# Altium integrated library Infineon_Power_Motor_Driver.IntLib: 100 symbols (part 3 of 7)
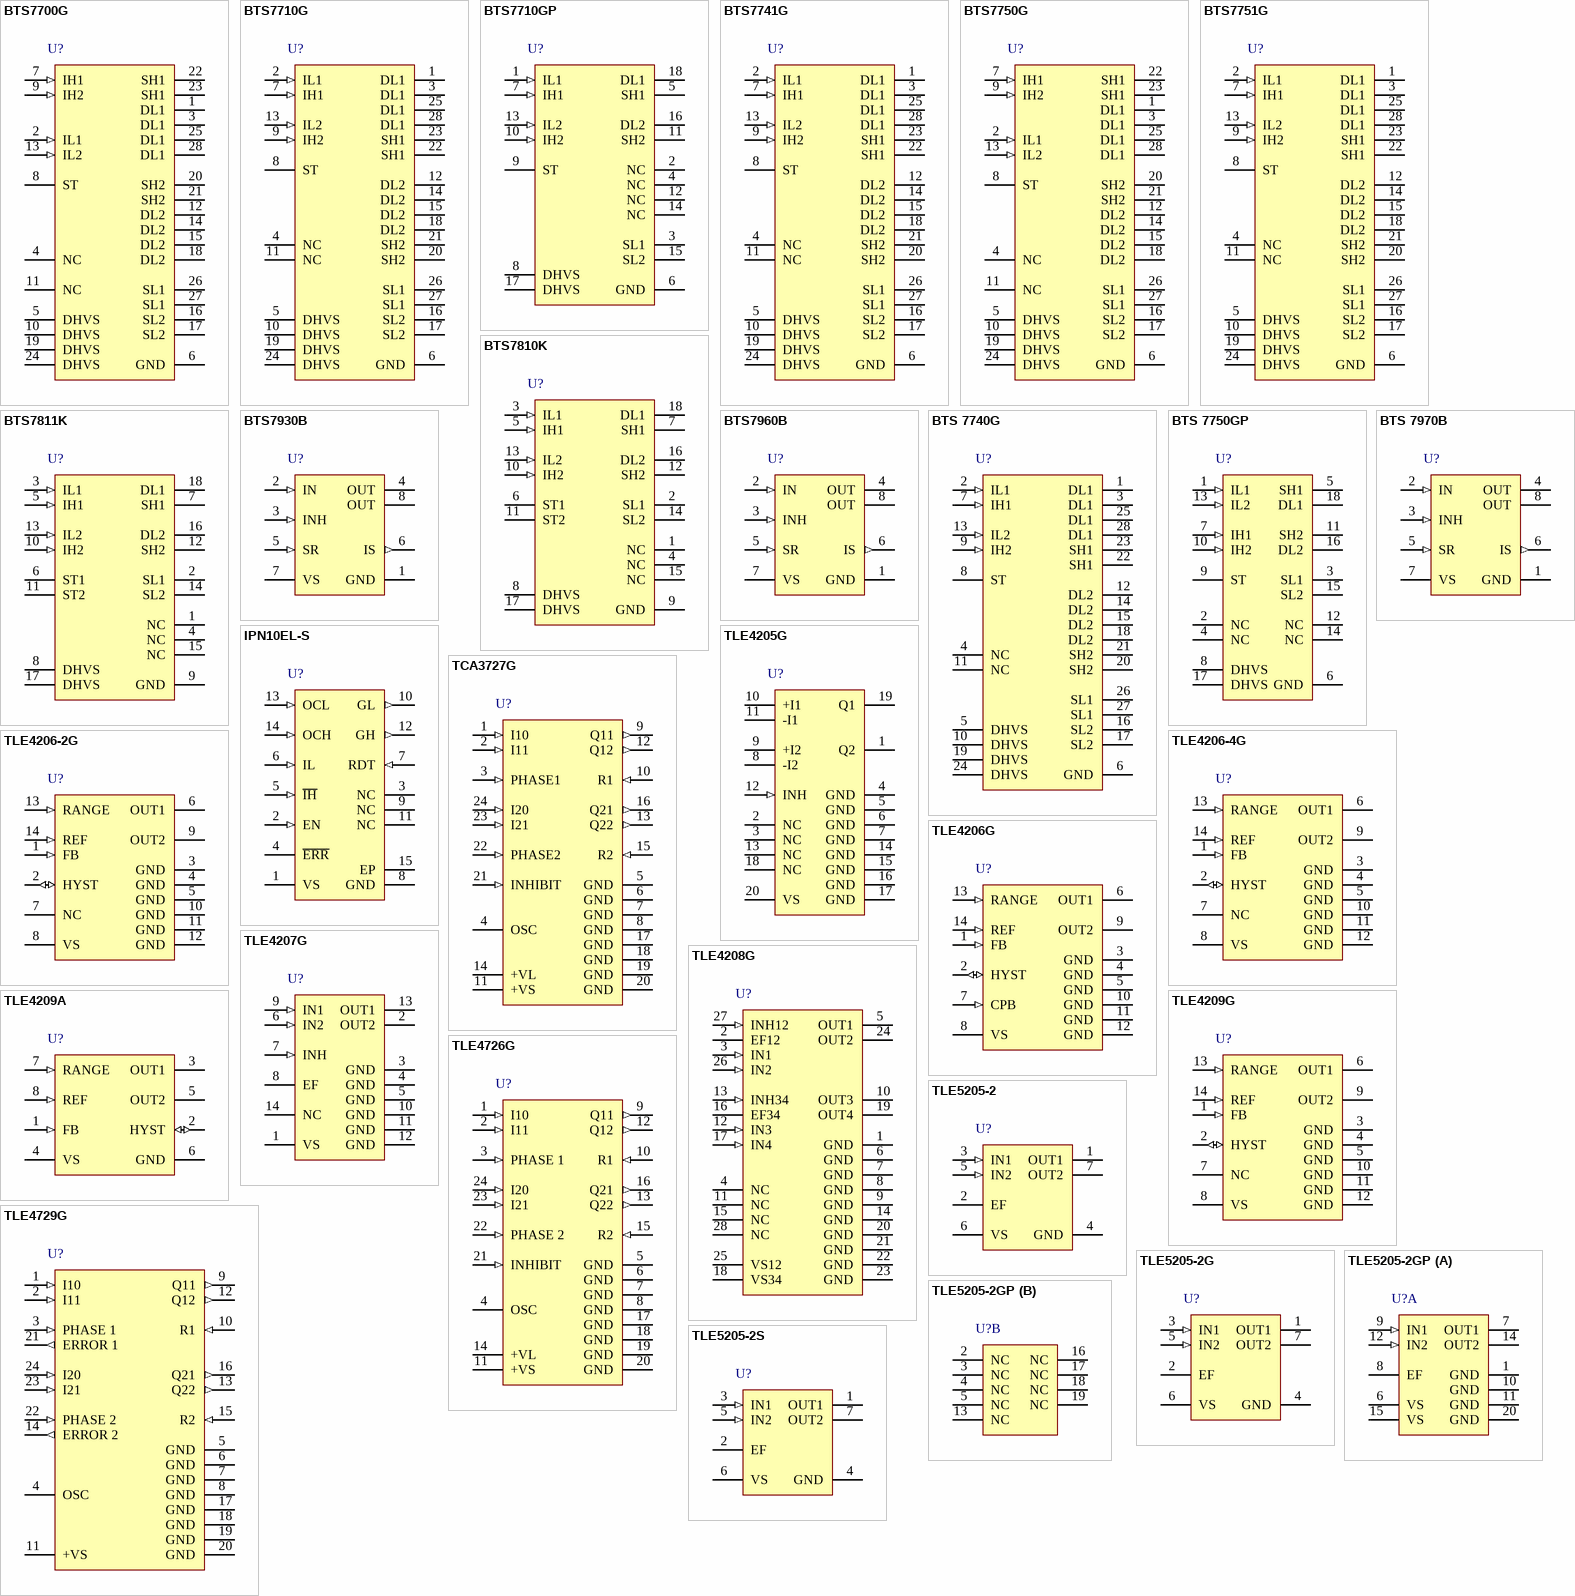
[diagram p6: symbols BTS7700G to TLE5205-2S]

## BTS7810K
designator U?
TrilithIC, 5 to 42 V, -40 to 150 degC, P-TO263-15-1; Manufacturer: Infineon; PartNumber: BTS7810K; Green: FALSE; ID(lim): 42 A; ID(lim) (min): 25 A; Iq (typ): 4 uA; Operating Range: 5 to 42 V; Protect: OT, SC; RDS(on) (typ): 40 mOhm; VS (max): 42 V; PackageVersion: Mar-03; PackageReference: P-TO263-15-1; PackageDescription: 15-Pin Plastic Transistor Single Outline Package, 21.6 x 9.25 mm Body, 1.4 mm Pitch; Supplier 1: Mouser; Supplier Part Number 1: 726-BTS7810K; Supplier 2: Digi-Key; Supplier Part Number 2: BTS7810K-ND; Group: TrilithIC; Halogen-free: FALSE; Inhibit: FALSE; Mounting Technology: Surface Mount; ComponentLink1Description: Manufacturer URL; ComponentLink1URL: http://www.infineon.com/; ComponentLink2Description: Datasheet; ComponentLink2URL: http://www.infineon.com/dgdl/BTS7810K_11-03-2003.pdf?folderId=db3a304412b407950112b439834a6e16&fileId=db3a304412b407950112b43983d56e17&location=en.Products.Automotive_ICs.Motor_Drivers__Automotive_.Integrated_High_Current_Motor_Drivers__NovalithIC____Trilith_IC_.DATASHEET.BTS7810K_11-03-2003.pdf; ComponentLink3Description: Package Specification; ComponentLink3URL: http://www.infineon.com/dgdl/BTS7810K_11-03-2003.pdf?folderId=db3a304412b407950112b439834a6e16&fileId=db3a304412b407950112b43983d56e17&sId=db3a30433db1c06a013db463a2ae1455
footprint INF-P-TO263-15-1_V (TO263, 15-Leads, Body 21.6x9.25mm, Pitch 1.4mm)
pins: 1 NC "Not connected", 2 SL1 (power) "Source of low-side switch 1", 3 IL1 (in) "Analog input of low-side switch 1", 4 NC "Not connected", 5 IH1 (in) "Digital input of high-side switch 1", 6 ST1 (oc) "Status of high-side switch 1; open Drain output", 7 SH1 (power) "Source of high-side switch 1", 8 DHVS (power) "Drain of high-side switches and power supply voltage", 9 GND (power) "Ground of high-side switches", 10 IH2 (in) "Digital input of high-side switch 2", 11 ST2 (oc) "Status of high-side switch 2; open Drain output", 12 SH2 (power) "Source of high-side switch 2", 13 IL2 (in) "Analog input of low-side switch 2", 14 SL2 (power) "Source of low-side switch 2", 15 NC "Not connected", 16 DL2 (power) "Drain of low-side switch 2 Heat-Slug 3", 17 DHVS (power) "Drain of high-side switches and power supply voltage Heat-Slug 2", 18 DL1 (power) "Drain of low-side switch 1 Heat-Slug 1"

## BTS7811K
designator U?
TrilithIC, 5 to 42 V, -40 to 150 degC, P-TO263-15-1; Manufacturer: Infineon; PartNumber: BTS7811K; Green: FALSE; ID(lim): 42 A; ID(lim) (min): 27 A; Iq (typ): 4 uA; Operating Range: 5 to 42 V; Protect: OT, SC; RDS(on) (typ): 40 mOhm; VS (max): 42 V; DatasheetVersion: Rev. 2.0; PackageVersion: Mar-03; PackageReference: P-TO263-15-1; PackageDescription: 15-Pin Plastic Transistor Single Outline Package, 21.6 x 9.25 mm Body, 1.4 mm Pitch; Supplier 1: Mouser; Supplier Part Number 1: 726-BTS7811K; Supplier 2: Digi-Key; Supplier Part Number 2: BTS7811K-ND; Group: TrilithIC; Halogen-free: TRUE; Inhibit: FALSE; Mounting Technology: Surface Mount; ComponentLink1Description: Manufacturer URL; ComponentLink1URL: http://www.infineon.com/; ComponentLink2Description: Datasheet; ComponentLink2URL: http://www.infineon.com/dgdl/BTS7811K_DS_20.pdf?folderId=db3a304319c6f18c011a33d4469709f3&fileId=db3a304319c6f18c011a33dc7ee809fe&location=en.Products.Automotive_ICs.Motor_Drivers__Automotive_.Integrated_High_Current_Motor_Drivers__NovalithIC____Trilith_IC_.DATASHEET.BTS7811K_DS_20.pdf; ComponentLink3Description: Package Specification; ComponentLink3URL: http://www.infineon.com/dgdl/BTS7810K_11-03-2003.pdf?folderId=db3a304412b407950112b439834a6e16&fileId=db3a304412b407950112b43983d56e17&sId=db3a30433db1c06a013db463a2ae1455
footprint INF-P-TO263-15-1_V (TO263, 15-Leads, Body 21.6x9.25mm, Pitch 1.4mm)
pins: 1 NC "Not connected", 2 SL1 (power) "Source of low-side switch 1", 3 IL1 (in) "Analog input of low-side switch 1", 4 NC "Not connected", 5 IH1 (in) "Digital input of high-side switch 1", 6 ST1 (oc) "Status of high-side switch 1; open Drain output", 7 SH1 (power) "Source of high-side switch 1", 8 DHVS (power) "Drain of high-side switches and power supply voltage", 9 GND (power) "Ground of high-side switches", 10 IH2 (in) "Digital input of high-side switch 2", 11 ST2 (oc) "Status of high-side switch 2; open Drain output", 12 SH2 (power) "Source of high-side switch 2", 13 IL2 (in) "Analog input of low-side switch 2", 14 SL2 (power) "Source of low-side switch 2", 15 NC "Not connected", 16 DL2 (power) "Drain of low-side switch 2 Heat-Slug 3", 17 DHVS (power) "Drain of high-side switches and power supply voltage Heat-Slug 2", 18 DL1 (power) "Drain of low-side switch 1 Heat-Slug 1"

## BTS7930B
designator U?
High Current PN Half Bridge NovalithIC, -40 to 150 degC, P-TO-263-7-6; Manufacturer: Infineon; PartNumber: BTS7930B; Green: FALSE; Iq (typ): 7 uA; DatasheetVersion: Rev. 2.0; PackageVersion: May-06; PackageReference: P-TO-263-7-6; PackageDescription: 7-Pin Plastic Transistor Single Outline Package, 9.9 x 9.2 mm Body, 1.27 mm Pitch; Supplier 1: Mouser; Supplier Part Number 1: N/A; Supplier 2: Digi-Key; Supplier Part Number 2: BTS7930BINTR-ND; Supplier 3: Digi-Key; Supplier Part Number 3: BTS7930BINCT-ND; Supplier 4: Digi-Key; Supplier Part Number 4: BTS7930BINDKR-ND; Halogen-free: FALSE; Mounting Technology: Surface Mount; ComponentLink1Description: Manufacturer URL; ComponentLink1URL: http://www.infineon.com/; ComponentLink2Description: Datasheet; ComponentLink2URL: http://www.infineon.com/dgdl/BTS7930B_Datasheet.pdf?folderId=db3a304412b407950112b408e8c90004&fileId=db3a304412b407950112b4394d6b6d65&location=en.Products.Automotive_ICs.Motor_Drivers__Automotive_.Integrated_High_Current_Motor_Drivers__NovalithIC____Trilith_IC_.DATASHEET.BTS7930B_Datasheet.pdf; ComponentLink3Description: Package Specification; ComponentLink3URL: http://www.infineon.com/dgdl/BTS7970B_Datasheet.pdf?folderId=db3a304412b407950112b408e8c90004&fileId=db3a304412b407950112b43949b36d61&sId=db3a30433d68e984013d7db637dc5e6a
footprint INF-P-TO-263-7-6_N (DPAK, 7-Leads, Body 9.9x9.2mm, Pitch 1.27mm, IPC Medium Density)
footprint INF-P-TO-263-7-6_L (DPAK, 7-Leads, Body 9.9x9.2mm, Pitch 1.27mm, IPC High Density)
footprint INF-P-TO-263-7-6_M (DPAK, 7-Leads, Body 9.9x9.2mm, Pitch 1.27mm, IPC Low Density)
pins: 1 GND (power) "Ground", 2 IN (in) "Input Defines whether high- or lowside switch is activated", 3 INH (in) "Inhibit When set to low device goes in sleep mode", 4 OUT (power) "Power output of the bridge", 5 SR (in) "Slew Rate The slew rate of the power switches can be adjusted by connecting a resistor between SR and GND", 6 IS (out) "Current Sense and Diagnosis", 7 VS (power) "Supply", 8 OUT (power) "Power output of the bridge"

## BTS7960B
designator U?
High Current PN Half Bridge NovalithIC, -40 to 150 degC, P-TO-263-7-6; Manufacturer: Infineon; PartNumber: BTS7960B; Green: FALSE; Iq (typ): 7 uA; DatasheetVersion: Rev. 1.1; PackageVersion: May-06; PackageReference: P-TO-263-7-6; PackageDescription: 7-Pin Plastic Transistor Single Outline Package, 9.9 x 9.2 mm Body, 1.27 mm Pitch; Supplier 1: Mouser; Supplier Part Number 1: N/A; Supplier 2: Digi-Key; Supplier Part Number 2: BTS7960BINTR-ND; Supplier 3: Digi-Key; Supplier Part Number 3: BTS7960BINCT-ND; Supplier 4: Digi-Key; Supplier Part Number 4: BTS7960BINDKR-ND; Halogen-free: FALSE; Mounting Technology: Surface Mount; ComponentLink1Description: Manufacturer URL; ComponentLink1URL: http://www.infineon.com/; ComponentLink2Description: Datasheet; ComponentLink2URL: http://www.infineon.com/dgdl/BTS7960_Datasheet.pdf?folderId=db3a304412b407950112b408e8c90004&fileId=db3a304412b407950112b43945006d5d&location=en.Products.Automotive_ICs.Motor_Drivers__Automotive_.Integrated_High_Current_Motor_Drivers__NovalithIC____Trilith_IC_.DATASHEET.BTS7960_Datasheet.pdf; ComponentLink3Description: Package Specification; ComponentLink3URL: http://www.infineon.com/dgdl/BTS7970B_Datasheet.pdf?folderId=db3a304412b407950112b408e8c90004&fileId=db3a304412b407950112b43949b36d61&sId=db3a30433d68e984013d7db637dc5e6a
footprint INF-P-TO-263-7-6_N (DPAK, 7-Leads, Body 9.9x9.2mm, Pitch 1.27mm, IPC Medium Density)
footprint INF-P-TO-263-7-6_L (DPAK, 7-Leads, Body 9.9x9.2mm, Pitch 1.27mm, IPC High Density)
footprint INF-P-TO-263-7-6_M (DPAK, 7-Leads, Body 9.9x9.2mm, Pitch 1.27mm, IPC Low Density)
pins: 1 GND (power) "Ground", 2 IN (in) "Input Defines whether high- or lowside switch is activated", 3 INH (in) "Inhibit When set to low device goes in sleep mode", 4 OUT (power) "Power output of the bridge", 5 SR (in) "Slew Rate The slew rate of the power switches can be adjusted by connecting a resistor between SR and GND", 6 IS (out) "Current Sense and Diagnosis", 7 VS (power) "Supply", 8 OUT (power) "Power output of the bridge"

## BTS 7740G
designator U?
TrilithIC, 4.5 to 42 V, -40 to 150 degC, P-DSO-28-14; Manufacturer: Infineon; PartNumber: BTS 7740G; Green: FALSE; ID(lim): 8 A; ID(lim) (min): 5 A; Iq (typ): 5 uA; Protect: OT, SC; RDS(on) (typ): 110 mOhm; VS (max): 42 V; PackageVersion: May-02; PackageReference: P-DSO-28-14; PackageDescription: 28-Pin Plastic Dual Small Outline Package, 17.9 x 7.5 mm Body, 1.27 mm Pitch; Group: TrilithIC; Halogen-free: FALSE; Inhibit: FALSE; Operating Range: 4.5 to 42 V; Mounting Technology: Surface Mount; ComponentLink1Description: Manufacturer URL; ComponentLink1URL: http://www.infineon.com/; ComponentLink2Description: Datasheet; ComponentLink2URL: http://www.infineon.com/dgdl/BTS7740G01-02-01.pdf?folderId=db3a304412b407950112b439749c6df8&fileId=db3a304412b407950112b43975266df9&location=en.Products.Automotive_ICs.Motor_Drivers__Automotive_.Integrated_High_Current_Motor_Drivers__NovalithIC____Trilith_IC_.DATASHEET.BTS7740G01-02-01.pdf; ComponentLink3Description: Package Specification; ComponentLink3URL: http://www.infineon.com/dgdl/BTS7710G_01-02-01.pdf?folderId=db3a304319c6f18c011a33d4469709f3&fileId=db3a304319c6f18c011a33d4f32e09f4&sId=db3a30443d67b5ca013d81e8b1c72d7d
footprint INF-P-DSO-28-14_N (SOP, 28-Leads, Body 17.7x3.9mm, Pitch 1.27mm, IPC Medium Density)
footprint INF-P-DSO-28-14_L (SOP, 28-Leads, Body 17.7x3.9mm, Pitch 1.27mm, IPC High Density)
footprint INF-P-DSO-28-14_M (SOP, 28-Leads, Body 17.7x3.9mm, Pitch 1.27mm, IPC Low Density)
pins: 1 DL1 (power) "Drain of low-side switch1, leadframe 1", 2 IL1 (in) "Analog input of low-side switch1", 3 DL1 (power) "Drain of low-side switch1, leadframe 1", 4 NC "not connected", 5 DHVS (power) "Drain of high-side switches and power supply voltage, leadframe 2", 6 GND (power) "Ground", 7 IH1 (in) "Digital input of high-side switch1", 8 ST (oc) "Status of high-side switches; open Drain output", 9 IH2 (in) "Digital input of high-side switch2", 10 DHVS (power) "Drain of high-side switches and power supply voltage, leadframe 2", 11 NC "not connected", 12 DL2 (power) "Drain of low-side switch2, leadframe 3", 13 IL2 (in) "Analog input of low-side switch2", 14 DL2 (power) "Drain of low-side switch2, leadframe 3", 15 DL2 (power) "Drain of low-side switch2, leadframe 3", 16 SL2 (power) "Source of low-side switch2", 17 SL2 (power) "Source of low-side switch2", 18 DL2 (power) "Drain of low-side switch2, leadframe 3", 19 DHVS (power) "Drain of high-side switches and power supply voltage, leadframe 2", 20 SH2 (power) "Source of high-side switch2", 21 SH2 (power) "Source of high-side switch2", 22 SH1 (power) "Source of high-side switch1", 23 SH1 (power) "Source of high-side switch1", 24 DHVS (power) "Drain of high-side switches and power supply voltage, leadframe 2", 25 DL1 (power) "Drain of low-side switch1, leadframe 1", 26 SL1 (power) "Source of low-side switch1", 27 SL1 (power) "Source of low-side switch1", 28 DL1 (power) "Drain of low-side switch1, leadframe 1"

## BTS 7750GP
designator U?
TrilithIC, -40 to 150 degC, P-TO263-15-1; Manufacturer: Infineon; PartNumber: BTS 7750GP; Green: FALSE; Iq (typ): 5 uA; PackageVersion: Mar-03; PackageReference: P-TO263-15-1; PackageDescription: 15-Pin Plastic Transistor Single Outline Package, 21.6 x 9.25 mm Body, 1.4 mm Pitch; Halogen-free: FALSE; Mounting Technology: Surface Mount; ComponentLink1Description: Manufacturer URL; ComponentLink1URL: http://www.infineon.com/; ComponentLink2Description: Datasheet; ComponentLink2URL: http://www.infineon.com/dgdl/BTS7750GP01-02-01.pdf?folderId=db3a304412b407950112b4397bdc6e07&fileId=db3a304412b407950112b4397c676e08&location=en.Products.Automotive_ICs.Motor_Drivers__Automotive_.Integrated_High_Current_Motor_Drivers__NovalithIC____Trilith_IC_.DATASHEET.BTS7750GP01-02-01.pdf; ComponentLink3Description: Package Specification; ComponentLink3URL: http://www.infineon.com/dgdl/BTS7810K_11-03-2003.pdf?folderId=db3a304412b407950112b439834a6e16&fileId=db3a304412b407950112b43983d56e17&sId=db3a30433db1c06a013db463a2ae1455
footprint INF-P-TO263-15-1_V (TO263, 15-Leads, Body 21.6x9.25mm, Pitch 1.4mm)
pins: 1 IL1 (in) "Analog input 01 low-side switch 1", 2 NC "Not connected", 3 SL1 (power) "Source of low-side switch 1", 4 NC "Not connected", 5 SH1 (power) "Source of high-side switch 1", 6 GND (power) "Ground of high-side switches", 7 IH1 (in) "Digital input of high-side switch 1", 8 DHVS (power) "Drain of high-side switches and power supply voltage", 9 ST (oc) "Status; open Drain output", 10 IH2 (in) "Digital input of high-side switch 2", 11 SH2 (power) "Source of high-side switch 2", 12 NC "Not connected", 13 IL2 (in) "Analog input of low-side switch 2", 14 NC "Not connected", 15 SL2 (power) "Source 01 low-side switch 2", 16 DL2 (power) "Drain of low-side switch 2 Heat-Slug 3 or Heat-Dissipator", 17 DHVS (power) "Drain of high-side switches and power supply voltage Heat-Slug 2 or Heat-Dissipator", 18 DL1 (power) "Drain of low-side switch 1 Heat-Slug 1 or Heat-Dissipator"

## BTS 7970B
designator U?
High Current PN Half Bridge NovalithIC, -40 to 150 degC, P-TO-263-7-6; Manufacturer: Infineon; PartNumber: BTS 7970B; Green: FALSE; Iq (typ): 7 uA; DatasheetVersion: Rev. 2.0; PackageVersion: May-06; PackageReference: P-TO-263-7-6; PackageDescription: 7-Pin Plastic Transistor Single Outline Package, 9.9 x 9.2 mm Body, 1.27 mm Pitch; Halogen-free: FALSE; Mounting Technology: Surface Mount; ComponentLink1Description: Manufacturer URL; ComponentLink1URL: http://www.infineon.com/; ComponentLink2Description: Datasheet; ComponentLink2URL: http://www.infineon.com/dgdl/BTS7970B_Datasheet.pdf?folderId=db3a304412b407950112b408e8c90004&fileId=db3a304412b407950112b43949b36d61&location=en.Products.Automotive_ICs.Motor_Drivers__Automotive_.Integrated_High_Current_Motor_Drivers__NovalithIC____Trilith_IC_.DATASHEET.BTS7970B_Datasheet.pdf; ComponentLink3Description: Package Specification; ComponentLink3URL: http://www.infineon.com/dgdl/BTS7970B_Datasheet.pdf?folderId=db3a304412b407950112b408e8c90004&fileId=db3a304412b407950112b43949b36d61&sId=db3a30433d68e984013d7db637dc5e6a
footprint INF-P-TO-263-7-6_N (DPAK, 7-Leads, Body 9.9x9.2mm, Pitch 1.27mm, IPC Medium Density)
footprint INF-P-TO-263-7-6_L (DPAK, 7-Leads, Body 9.9x9.2mm, Pitch 1.27mm, IPC High Density)
footprint INF-P-TO-263-7-6_M (DPAK, 7-Leads, Body 9.9x9.2mm, Pitch 1.27mm, IPC Low Density)
pins: 1 GND (power) "Ground", 2 IN (in) "Input Defines whether high- or lowside switch is activated", 3 INH (in) "Inhibit When set to low device goes in sleep mode", 4 OUT (power) "Power output of the bridge", 5 SR (in) "Slew Rate The slew rate of the power switches can be adjusted by connecting a resistor between SR and GND", 6 IS (out) "Current Sense and Diagnosis", 7 VS (power) "Supply", 8 OUT (power) "Power output of the bridge"

## IPN10EL-S
designator U?
PN Half Bridge Driver IC, 3 uA Iq, PG-SSOP-14, Reel, Green; Manufacturer: Infineon; PartNumber: IPN10EL-S; adjustable dead time: 0.21 to 2.1 us; adjustable short circuit detection: FALSE; Green: TRUE; Iq: 3uA; PWM-DIR interface: 2x input; System IC components (e.g.: Vreg uC); turn on/off current: 0.4 A; DatasheetVersion: Rev. 1.1; PackageVersion: Oct-08; PackageReference: PG-SSOP-14; PackageDescription: 14-Pin Plastic (Green) Shrink Small Outline Package, 4.9 x 3.9 mm Body, 0.65 mm Pitch; Supplier 1: Mouser; Supplier Part Number 1: N/A; Halogen-free: TRUE; Packing: Reel; SIL3 fetaures: FALSE; Mounting Technology: Surface Mount; ComponentLink1Description: Manufacturer URL; ComponentLink1URL: http://www.infineon.com/; ComponentLink2Description: Datasheet; ComponentLink2URL: http://www.infineon.com/dgdl/IPN10EL-S-Data-Sheet-11-Infineon.pdf?folderId=db3a30431ff98815012060aedcd46179&fileId=db3a304340155f3d014038b31b777021; ComponentLink3Description: Package Specification; ComponentLink3URL: http://www.infineon.com/dgdl/PG-SSOP-14-1%2C-2%2C-3%2C-5-Package_Overview.pdf?folderId=db3a304327b897500127f79f69566553&fileId=db3a3043422231a901422ce38a900db8
footprint INF-PG-SSOP-14_N (SOP, 14-Leads, Body 4.9x3.9mm, Pitch 0.65mm, Thermal Pad 3.2x2.75mm, IPC Medium Density)
footprint INF-PG-SSOP-14_L (SOP, 14-Leads, Body 4.9x3.9mm, Pitch 0.65mm, Thermal Pad 3.2x2.85mm, IPC High Density)
footprint INF-PG-SSOP-14_M (SOP, 14-Leads, Body 4.9x3.9mm, Pitch 0.65mm, Thermal Pad 3.2x2.55mm, IPC Low Density)
pins: 1 VS (power) "Power supply", 2 EN (in) "Enable input (active high)", 3 NC "not connected", 4 ~{ERR} (oc) "Error output to uC (active low)", 5 ~{IH} (in) "Input for high side MOSFET (active low)", 6 IL (in) "Input for low side MOSFET (active high)", 7 RDT (in) "Dead time resistor to ground; no internal DT generation", 8 GND (power) "Ground", 9 NC "not connected", 10 GL (out) "Gate output for low side MOSFET", 11 NC "not connected", 12 GH (out) "Gate output for high side MOSFET", 13 OCL (in) "Shunt input for overcurrent detection - low side", 14 OCH (in) "Shunt input for overcurrent detection - high side", 15 EP (power) "The exposed pad on the backside of the package should be connected to GND"

## TCA3727G
designator U?
2-Phase Stepper Motor Driver Bipolar IC, -40 to 125 degC, PG-DSO-24-13, Reel, Green; Manufacturer: Infineon; PartNumber: TCA3727G; Green: TRUE; IPeak: 2 x 1 A; Iq: 2 x 0.75 A; Iq (typ): 20 uA; Protect: Overtemp. e.a.; DatasheetVersion: Rev. 2.2; PackageVersion: Jun-08; PackageReference: PG-DSO-24-13; PackageDescription: 24-Pin Plastic (Green) Dual Small Outline Package, 15.4 x 7.5 mm Body, 1.27 mm Pitch; Supplier 1: Mouser; Supplier Part Number 1: 726-TCA3727G; Supplier 2: Digi-Key; Supplier Part Number 2: TCA3727GTR-ND; Supplier 3: Digi-Key; Supplier Part Number 3: TCA3727GCT-ND; Supplier 4: Digi-Key; Supplier Part Number 4: TCA3727GDKR-ND; Group: Stepper Motor Driver; Halogen-free: TRUE; Inhibit: TRUE; Packing: Reel; Technology: Bipolar; Mounting Technology: Surface Mount; ComponentLink1Description: Manufacturer URL; ComponentLink1URL: http://www.infineon.com/; ComponentLink2Description: Datasheet; ComponentLink2URL: http://www.infineon.com/dgdl/TCA%25203727G_Green%2520DS_Rev%25202.2%5B1%5D.pdf?folderId=db3a3043156fd5730116144c5d101c30&fileId=db3a30431f848401011fc7dbaad77a8c&location=en.Products.Automotive_ICs.Motor_Drivers__Automotive_.Integrated_Smart_Power_Motor_Drivers.DATASHEET.TCA%203727G_Green%20DS_Rev%202.2[1].pdf; ComponentLink3Description: Package Specification; ComponentLink3URL: http://www.infineon.com/dgdl/TLE%25204726G_Green%2520DS_1+11.pdf?folderId=db3a3043156fd5730116144c5d101c30&fileId=db3a30431f848401011fc7e136367a9d&sId=db3a30433d68e984013d7e2687ef6145
footprint INF-PG-DSO-24-13_N (SOP, 24-Leads, Body 15.4x7.5mm, Pitch 1.27mm, IPC Medium Density)
footprint INF-PG-DSO-24-13_L (SOP, 24-Leads, Body 15.4x7.5mm, Pitch 1.27mm, IPC High Density)
footprint INF-PG-DSO-24-13_M (SOP, 24-Leads, Body 15.4x7.5mm, Pitch 1.27mm, IPC Low Density)
pins: 1 I10 (in) "Digital control inputs IX0, IX1 for the magnitude of the current of the particular phase. See Table 2.", 2 I11 (in) "Digital control inputs IX0, IX1 for the magnitude of the current of the particular phase. See Table 2.", 3 PHASE1 (in) "Input Phase 1; controls the current through phase winding 1. On H-potential the phase current flows from Q11 to Q12, on L-potential in the reverse direction", 4 OSC "Oscillator; works at approx. 25 kHz if this pin is wired to ground across 2.2 nF.", 5 GND (power) "Ground; all pins are connected internally.", 6 GND (power) "Ground; all pins are connected internally.", 7 GND (power) "Ground; all pins are connected internally.", 8 GND (power) "Ground; all pins are connected internally.", 9 Q11 (out) "Push-pull outputs Q11, Q12 for phase 1 with integrated free-wheeling diodes.", 10 R1 (in) "Resistor R1 for sensing the current in phase 1.", 11 +VS (power) "Supply voltage; block to ground, as close as possible to the IC, with a stable electrolytic capacitor of at least 10 uF in parallel with a ceramic capacitor of 220 nF.", 12 Q12 (out) "Push-pull outputs Q11, Q12 for phase 1 with integrated free-wheeling diodes.", 13 Q22 (out) "Push-pull outputs Q22, Q21 for phase 2 with integrated free wheeling diodes.", 14 +VL (power) "Logic supply voltage; either supply with 5 V or connect to +VS across a series resistor. A Z-diode of approx. 7 V is integrated. In both cases block to ground directly on the IC with a stable electrolytic capacitor of 10 uF (See Datasheet)", 15 R2 (in) "Resistor R2 for sensing the current in phase 2.", 16 Q21 (out) "Push-pull outputs Q22, Q21 for phase 2 with integrated free wheeling diodes.", 17 GND (power) "Ground; all pins are connected internally.", 18 GND (power) "Ground; all pins are connected internally.", 19 GND (power) "Ground; all pins are connected internally.", 20 GND (power) "Ground; all pins are connected internally.", 21 INHIBIT (in) "Inhibit input; the IC can be put on standby by low potential on this pin. This reduces the current consumption substantially", 22 PHASE2 (in) "Input phase 2; controls the current flow through phase winding 2. On H-potential the phase current flows from Q21 to Q22, on L potential in the reverse direction", 23 I21 (in) "Digital control inputs IX0, IX1 for the magnitude of the current of the particular phase. See Table 2.", 24 I20 (in) "Digital control inputs IX0, IX1 for the magnitude of the current of the particular phase. See Table 2."

## TLE4205G
designator U?
1 A DC Motor Driver, -40 to 150 degC, P-DSO-20-17, Reel; Manufacturer: Infineon; PartNumber: TLE4205G; Green: FALSE; Group: Servo Driver; Inhibit: TRUE; IPeak: 2 x 1 A; Iq: 2 x 0.6 A; Iq (typ): 10 uA; Protect: Short to GND; PackageVersion: Feb-04; PackageReference: P-DSO-20-17; PackageDescription: 20-Pin Plastic Dual Small Outline Package, 12.7 x 7.5 mm Body, 1.27 mm Pitch; Supplier 1: Mouser; Supplier Part Number 1: 726-TLE4205G; Supplier 2: Digi-Key; Supplier Part Number 2: TLE4205GTR-ND; Supplier 3: Digi-Key; Supplier Part Number 3: TLE4205GCT-ND; Supplier 4: Digi-Key; Supplier Part Number 4: TLE4205GDKR-ND; Halogen-free: FALSE; Packing: Reel; Technology: Bipolar; Mounting Technology: Surface Mount; ComponentLink1Description: Manufacturer URL; ComponentLink1URL: http://www.infineon.com/; ComponentLink2Description: Datasheet; ComponentLink2URL: http://www.infineon.com/dgdl/Datasheet_TLE4205_20040225.pdf?folderId=db3a304412b407950112b439398c6d49&fileId=db3a304412b407950112b4393a186d4a&location=en.Products.Automotive_ICs.Motor_Drivers__Automotive_.Integrated_Smart_Power_Motor_Drivers.DATASHEET.Datasheet_TLE4205_20040225.pdf; ComponentLink3Description: Package Specification; ComponentLink3URL: http://www.infineon.com/dgdl/Datasheet_TLE4205_20040225.pdf?folderId=db3a304412b407950112b43837ed6a72&fileId=db3a304412b407950112b43838736a73&sId=db3a30433d68e984013d7f3ab0ac626e
footprint INF-P-DSO-20-17_N (SOP, 20-Leads, Body 12.7x7.5mm, Pitch 1.27mm, IPC Medium Density)
footprint INF-P-DSO-20-17_L (SOP, 20-Leads, Body 12.7x7.5mm, Pitch 1.27mm, IPC High Density)
footprint INF-P-DSO-20-17_M (SOP, 20-Leads, Body 12.7x7.5mm, Pitch 1.27mm, IPC Low Density)
pins: 1 Q2 (power) "Output 2 of channel 2; push-pull B output with DC short-circuit  protection to ground. Integrated free-wheeling diodes to ground  and the supply voltage.", 2 NC "Not connected", 3 NC "Not connected", 4 GND (power) "Ground", 5 GND (power) "Ground", 6 GND (power) "Ground", 7 GND (power) "Ground", 8 -I2 (power) "Inverting input channel 2; to be wired according to general  rules.", 9 +I2 (power) "Non-inverting input channel 2; to be wired according to  general rules.", 10 +I1 (power) "Non-inverting input channel 1; see pin 9.", 11 -I1 (power) "Inverting input channel 1; see pin 8", 12 INH (in) "Inhibit; the IC is passive when this pin is open or connected to  ground.", 13 NC "Not connected", 14 GND (power) "Ground", 15 GND (power) "Ground", 16 GND (power) "Ground", 17 GND (power) "Ground", 18 NC "Not connected", 19 Q1 (power) "Output Q1 of channel 1, see pin 1.", 20 VS (power) "Supply voltageVS; must be blocked with a ceramic capacitor  of at least 100 nF directly on the pins of the IC"

## TLE4206-2G
designator U?
1 A DC Motor Driver for Servo Driver Applications, -40 to 150 degC, PG-DSO-14-22, Reel, Green; Manufacturer: Infineon; PartNumber: TLE4206-2G; Green: TRUE; Inhibit: FALSE; IPeak: 2 x 1 A; Iq: 2 x 0.8 A; Iq (typ): 10 uA; Protect: short circuit e.a.; DatasheetVersion: Rev. 1.2; PackageVersion: Aug-07; PackageReference: PG-DSO-14-22; PackageDescription: 14-Pin Plastic (Green) Dual Small Outline Package, 8.65 x 3.9 mm Body, 1.27 mm Pitch; Supplier 1: Mouser; Supplier Part Number 1: 726-TLE42062G; Supplier 2: Digi-Key; Supplier Part Number 2: TLE4206-2GINTR-ND; Supplier 3: Digi-Key; Supplier Part Number 3: TLE4206-2GINCT-ND; Supplier 4: Digi-Key; Supplier Part Number 4: TLE4206-2GINDKR-ND; Group: Servo Driver; Halogen-free: TRUE; Packing: Reel; Technology: Bipolar; Mounting Technology: Surface Mount; ComponentLink1Description: Manufacturer URL; ComponentLink1URL: http://www.infineon.com/; ComponentLink2Description: Datasheet; ComponentLink2URL: http://www.infineon.com/dgdl/DS_TLE4206-2G_2008-02-04_Green_V12.pdf?folderId=db3a3043156fd5730116144c5d101c30&fileId=db3a304318f3fe290119056461a57f4c&location=en.Products.Automotive_ICs.Motor_Drivers__Automotive_.Integrated_Smart_Power_Motor_Drivers.DATASHEET.DS_TLE4206-2G_2008-02-04_Green_V12.pdf; ComponentLink3Description: Package Specification; ComponentLink3URL: http://www.infineon.com/dgdl/DS_TLE4206G_2007-08-10_Green_V11.pdf?folderId=db3a3043156fd5730116144c5d101c30&fileId=db3a3043163797a6011685bdd91c1672&sId=db3a30433d68e984013d7e2ab9f06173
footprint INF-PG-DSO-14-22_N (SOP, 14-Leads, Body 8.65x3.9mm, Pitch 1.27mm, IPC Medium Density)
footprint INF-PG-DSO-14-22_L (SOP, 14-Leads, Body 8.65x3.9mm, Pitch 1.27mm, IPC High Density)
footprint INF-PG-DSO-14-22_M (SOP, 14-Leads, Body 8.65x3.9mm, Pitch 1.27mm, IPC Low Density)
pins: 1 FB (in) "Feedback Input", 2 HYST (io) "Hysteresis I/O", 3 GND (power) "Ground", 4 GND (power) "Ground", 5 GND (power) "Ground", 6 OUT1 (power) "Power Output 1", 7 NC "Not connected", 8 VS (power) "Power Supply Voltage", 9 OUT2 (power) "Power Output 2", 10 GND (power) "Ground", 11 GND (power) "Ground", 12 GND (power) "Ground", 13 RANGE (in) "Range Input", 14 REF (in) "Reference Input"

## TLE4206-4G
designator U?
H-Bridge Driver Headlight Beam Controller, -40 to 150 degC, PG-DSO-14-22, Reel, Green; Manufacturer: Infineon; PartNumber: TLE4206-4G; Green: TRUE; Group: Servo Driver; Inhibit: FALSE; IPeak: 2 x 1 A; Iq: 2 x 0.8 A; Iq (typ): 10 uA; Protect: short circuit e.a.; DatasheetVersion: Rev. 1.0; PackageVersion: Aug-07; PackageReference: PG-DSO-14-22; PackageDescription: 14-Pin Plastic (Green) Dual Small Outline Package, 8.65 x 3.9 mm Body, 1.27 mm Pitch; Supplier 1: Mouser; Supplier Part Number 1: 726-TLE4206-4G; Supplier 2: Digi-Key; Supplier Part Number 2: TLE4206-4G-ND; Halogen-free: TRUE; Packing: Reel; Technology: Bipolar; Mounting Technology: Surface Mount; ComponentLink1Description: Manufacturer URL; ComponentLink1URL: http://www.infineon.com/; ComponentLink2Description: Datasheet; ComponentLink2URL: http://www.infineon.com/dgdl/TLE4206-4G_DS_V1.0.pdf?folderId=db3a3043156fd5730116144c5d101c30&fileId=db3a30432b16d655012b1f6f58b65b6b&location=en.Products.Automotive_ICs.Motor_Drivers__Automotive_.Integrated_Smart_Power_Motor_Drivers.DATASHEET.TLE4206-4G_DS_V1.0.pdf; ComponentLink3Description: Package Specification; ComponentLink3URL: http://www.infineon.com/dgdl/DS_TLE4206G_2007-08-10_Green_V11.pdf?folderId=db3a3043156fd5730116144c5d101c30&fileId=db3a3043163797a6011685bdd91c1672&sId=db3a30433d68e984013d7e2ab9f06173
footprint INF-PG-DSO-14-22_N (SOP, 14-Leads, Body 8.65x3.9mm, Pitch 1.27mm, IPC Medium Density)
footprint INF-PG-DSO-14-22_L (SOP, 14-Leads, Body 8.65x3.9mm, Pitch 1.27mm, IPC High Density)
footprint INF-PG-DSO-14-22_M (SOP, 14-Leads, Body 8.65x3.9mm, Pitch 1.27mm, IPC Low Density)
pins: 1 FB (in) "Feedback Input", 2 HYST (io) "Hysteresis I/O", 3 GND (power) "Ground", 4 GND (power) "Ground", 5 GND (power) "Ground", 6 OUT1 (power) "Power Output 1", 7 NC "Not connected", 8 VS (power) "Power Supply Voltage", 9 OUT2 (power) "Power Output 2", 10 GND (power) "Ground", 11 GND (power) "Ground", 12 GND (power) "Ground", 13 RANGE (in) "Range Input", 14 REF (in) "Reference Input"

## TLE4206G
designator U?
1 A DC Motor Driver for Servo Driver Applications, -40 to 150 degC, PG-DSO-14-22, Reel, Green; Manufacturer: Infineon; PartNumber: TLE4206G; Green: TRUE; Inhibit: FALSE; IPeak: 2 x 1 A; Iq: 2 x 0.8 A; Iq (typ): 10 uA; Protect: short circuit e.a.; DatasheetVersion: Rev. 1.1; PackageVersion: Aug-07; PackageReference: PG-DSO-14-22; PackageDescription: 14-Pin Plastic (Green) Dual Small Outline Package, 8.65 x 3.9 mm Body, 1.27 mm Pitch; Supplier 1: Mouser; Supplier Part Number 1: 726-TLE4206G; Supplier 2: Digi-Key; Supplier Part Number 2: TLE4206GINTR-ND; Supplier 3: Digi-Key; Supplier Part Number 3: TLE4206GINCT-ND; Supplier 4: Digi-Key; Supplier Part Number 4: TLE4206GINDKR-ND; Group: Servo Driver; Halogen-free: TRUE; Packing: Reel; Technology: Bipolar; Mounting Technology: Surface Mount; ComponentLink1Description: Manufacturer URL; ComponentLink1URL: http://www.infineon.com/; ComponentLink2Description: Datasheet; ComponentLink2URL: http://www.infineon.com/dgdl/DS_TLE4206G_2007-08-10_Green_V11.pdf?folderId=db3a3043156fd5730116144c5d101c30&fileId=db3a3043163797a6011685bdd91c1672&location=en.Products.Automotive_ICs.Motor_Drivers__Automotive_.Integrated_Smart_Power_Motor_Drivers.DATASHEET.DS_TLE4206G_2007-08-10_Green_V11.pdf; ComponentLink3Description: Package Specification; ComponentLink3URL: http://www.infineon.com/dgdl/DS_TLE4206G_2007-08-10_Green_V11.pdf?folderId=db3a3043156fd5730116144c5d101c30&fileId=db3a3043163797a6011685bdd91c1672&sId=db3a30433d68e984013d7e2ab9f06173
footprint INF-PG-DSO-14-22_N (SOP, 14-Leads, Body 8.65x3.9mm, Pitch 1.27mm, IPC Medium Density)
footprint INF-PG-DSO-14-22_L (SOP, 14-Leads, Body 8.65x3.9mm, Pitch 1.27mm, IPC High Density)
footprint INF-PG-DSO-14-22_M (SOP, 14-Leads, Body 8.65x3.9mm, Pitch 1.27mm, IPC Low Density)
pins: 1 FB (in) "Feedback Input", 2 HYST (io) "Hysteresis I/O", 3 GND (power) "Ground", 4 GND (power) "Ground", 5 GND (power) "Ground", 6 OUT1 (power) "Power Output 1", 7 CPB (in) "Current Peak Blanking Input", 8 VS (power) "Power Supply Voltage", 9 OUT2 (power) "Power Output 2", 10 GND (power) "Ground", 11 GND (power) "Ground", 12 GND (power) "Ground", 13 RANGE (in) "Range Input", 14 REF (in) "Reference Input"

## TLE4207G
designator U?
1 A Dual-HBD (Dual-Half-Bridge Driver), -40 to 150 degC, PG-DSO-14-22, Reel, Green; Manufacturer: Infineon; PartNumber: TLE4207G; Green: TRUE; Group: Multi Half Bridges; IPeak: 2 x 1 A; Iq: 2 x 0.8 A; Iq (typ): 20 uA; Protect: short circuit e.a.; DatasheetVersion: Rev. 1.1; PackageVersion: Aug-07; PackageReference: PG-DSO-14-22; PackageDescription: 14-Pin Plastic (Green) Dual Small Outline Package, 8.65 x 3.9 mm Body, 1.27 mm Pitch; Supplier 1: Mouser; Supplier Part Number 1: 726-TLE4207G; Supplier 2: Newark; Supplier Part Number 2: 78X5465; Supplier 3: Farnell; Supplier Part Number 3: 2432515; Supplier 4: Digi-Key; Supplier Part Number 4: TLE4207GINTR-ND; Supplier 5: Digi-Key; Supplier Part Number 5: TLE4207GINCT-ND; Supplier 6: Digi-Key; Supplier Part Number 6: TLE4207GINDKR-ND; Halogen-free: TRUE; Inhibit: TRUE; Packing: Reel; Technology: Bipolar; Mounting Technology: Surface Mount; ComponentLink1Description: Manufacturer URL; ComponentLink1URL: http://www.infineon.com/; ComponentLink2Description: Datasheet; ComponentLink2URL: http://www.infineon.com/dgdl/DS_TLE4207G_V11_2008-01-08_Green.pdf?folderId=db3a3043156fd5730116144c5d101c30&fileId=db3a30431c48a312011c4b7917e47fd0&location=en.Products.Automotive_ICs.Motor_Drivers__Automotive_.Integrated_Smart_Power_Motor_Drivers.DATASHEET.DS_TLE4207G_V11_2008-01-08_Green.pdf; ComponentLink3Description: Package Specification; ComponentLink3URL: http://www.infineon.com/dgdl/DS_TLE4206G_2007-08-10_Green_V11.pdf?folderId=db3a3043156fd5730116144c5d101c30&fileId=db3a3043163797a6011685bdd91c1672&sId=db3a30433d68e984013d7e2ab9f06173
footprint INF-PG-DSO-14-22_N (SOP, 14-Leads, Body 8.65x3.9mm, Pitch 1.27mm, IPC Medium Density)
footprint INF-PG-DSO-14-22_L (SOP, 14-Leads, Body 8.65x3.9mm, Pitch 1.27mm, IPC High Density)
footprint INF-PG-DSO-14-22_M (SOP, 14-Leads, Body 8.65x3.9mm, Pitch 1.27mm, IPC Low Density)
pins: 1 VS (power) "Power supply voltage; positive reference potential for blocking capacitor", 2 OUT2 (power) "Power output 2; short circuit protected; with integrated clamp diodes", 3 GND (power) "Ground; negative reference potential for blocking capacitor", 4 GND (power) "Ground; negative reference potential for blocking capacitor", 5 GND (power) "Ground; negative reference potential for blocking capacitor", 6 IN2 (in) "Input channel 2; controls OUT2 (not inverted)", 7 INH (in) "Inhibit input; low = IC in stand-by", 8 EF (oc) "Error Flag output; open collector; low = error", 9 IN1 (in) "Input channel 1; controls OUT1 (not inverted)", 10 GND (power) "Ground; negative reference potential for blocking capacitor", 11 GND (power) "Ground; negative reference potential for blocking capacitor", 12 GND (power) "Ground; negative reference potential for blocking capacitor", 13 OUT1 (power) "Power output 1; short circuit protected; with integrated clamp diodes", 14 NC "Not connected"

## TLE4208G
designator U?
1 A Quad-HBD (Quad-Half-Bridge Driver), -40 to 150 degC, PG-DSO-28-24, Reel, Green; Manufacturer: Infineon; PartNumber: TLE4208G; Green: TRUE; Group: Multi Half Bridges; IPeak: 4 x 1 A; Iq: 4 x 0.8 A; Iq (typ): 20 uA; Protect: short circuit; DatasheetVersion: Rev. 1.1; PackageVersion: Sep-07; PackageReference: PG-DSO-28-24; PackageDescription: 28-Pin Plastic (Green) Dual Small Outline Package, 17.9 x 7.5 mm Body, 1.27 mm Pitch; Supplier 1: Mouser; Supplier Part Number 1: 726-TLE4208G; Supplier 2: Newark; Supplier Part Number 2: 47W3766; Supplier 3: Farnell; Supplier Part Number 3: 2215542; Supplier 4: Digi-Key; Supplier Part Number 4: TLE4208GINTR-ND; Supplier 5: Digi-Key; Supplier Part Number 5: TLE4208GINCT-ND; Supplier 6: Digi-Key; Supplier Part Number 6: TLE4208GINDKR-ND; Halogen-free: TRUE; Inhibit: TRUE; Packing: Reel; Technology: Bipolar; Mounting Technology: Surface Mount; ComponentLink1Description: Manufacturer URL; ComponentLink1URL: http://www.infineon.com/; ComponentLink2Description: Datasheet; ComponentLink2URL: http://www.infineon.com/dgdl/TLE4208G_Green_DS_V1.1.pdf?folderId=db3a30431441fb5d011491e8958a0f76&fileId=db3a30431441fb5d011491ebbe900f79&location=en.Products.Automotive_ICs.Motor_Drivers__Automotive_.Integrated_Smart_Power_Motor_Drivers.DATASHEET.TLE4208G_Green_DS_V1.1.pdf; ComponentLink3Description: Package Specification; ComponentLink3URL: http://www.infineon.com/dgdl/TLE6208-6G_DS_11.pdf?folderId=db3a3043156fd5730116144c5d101c30&fileId=db3a30431c48a312011c4c052072000c&sId=db3a30443d67b5ca013d7dc955b12863
footprint INF-PG-DSO-28-24_N (SOP, 28-Leads, Body 17.9x7.5mm, Pitch 1.27mm, IPC Medium Density)
footprint INF-PG-DSO-28-24_L (SOP, 28-Leads, Body 17.9x7.5mm, Pitch 1.27mm, IPC High Density)
footprint INF-PG-DSO-28-24_M (SOP, 28-Leads, Body 17.9x7.5mm, Pitch 1.27mm, IPC Low Density)
pins: 1 GND (power) "Ground; negative reference potential for blocking capacitor", 2 EF12 (oc) "Error Flag output of half-bridges 1and 2; open collector; low = error", 3 IN1 (in) "Input channel of half-bridge 1; controls OUT1", 4 NC "Not connected", 5 OUT1 (power) "Power output of half-bridge 1; short circuit protected; with integrated clamp diodes", 6 GND (power) "Ground; negative reference potential for blocking capacitor", 7 GND (power) "Ground; negative reference potential for blocking capacitor", 8 GND (power) "Ground; negative reference potential for blocking capacitor", 9 GND (power) "Ground; negative reference potential for blocking capacitor", 10 OUT3 (power) "Power output of half-bridge 3; short-circuit protected; with integrated clamp diodes", 11 NC "Not connected", 12 IN3 (in) "Input channel of half-bridge 3; controls OUT3", 13 INH34 (in) "Inhibit input of half-bridges 3 and 4; low = half-bridges 3 and 4 in stand-by", 14 GND (power) "Ground; negative reference potential for blocking capacitor", 15 NC "Not connected", 16 EF34 (oc) "Error Flag output of half-bridges 3 and 4; open collector; low = error", 17 IN4 (in) "Input channel of half-bridge 4; controls OUT4", 18 VS34 (power) "Power supply voltage of half-bridges 3 and 4; positive reference potential for blocking capacitor", 19 OUT4 (power) "Power output of half-bridge 4; short circuit protected; with integrated clamp diodes", 20 GND (power) "Ground; negative reference potential for blocking capacitor", 21 GND (power) "Ground; negative reference potential for blocking capacitor", 22 GND (power) "Ground; negative reference potential for blocking capacitor", 23 GND (power) "Ground; negative reference potential for blocking capacitor", 24 OUT2 (power) "Power-output of half-bridge 2; short circuit protected; with integrated clamp diodes", 25 VS12 (power) "Power supply voltage of half-bridges 1 and 2; positive reference potential for blocking capacitor", 26 IN2 (in) "Input channel of half-bridge 2; controls OUT2", 27 INH12 (in) "Inhibit input of half-bridges 1and 2; low = half-bridges 1 and 2 in stand-by", 28 NC "Not connected"

## TLE4209A
designator U?
DC Motor Driver for Servo Driver Applications, -40 to 150 degC, PG-DIP-8-4, Tube, Green; Manufacturer: Infineon; PartNumber: TLE4209A; Green: TRUE; Inhibit: FALSE; IPeak: 2 x 1 A; Iq: 2 x 0.8 A; Iq (typ): 10 uA; Protect: short circuit e.a.; DatasheetVersion: Rev.1.1; PackageVersion: Jul-07; PackageReference: PG-DIP-8-4; PackageDescription: 8-Pin Plastic (Green) Dual In-Line Package, 9.52 x 6.35 mm Body, 2.54 mm Pitch; Supplier 1: Mouser; Supplier Part Number 1: 726-TLE4209A; Supplier 2: Newark; Supplier Part Number 2: 47W3767; Supplier 3: Farnell; Supplier Part Number 3: 2215541; Supplier 4: Digi-Key; Supplier Part Number 4: TLE4209A-ND; Group: Servo Driver; Halogen-free: FALSE; Packing: Tube; Technology: Bipolar; Mounting Technology: Through Hole; ComponentLink1Description: Manufacturer URL; ComponentLink1URL: http://www.infineon.com/; ComponentLink2Description: Datasheet; ComponentLink2URL: http://www.infineon.com/dgdl/TLE4209A_DS_11.pdf?folderId=db3a3043156fd5730116144c5d101c30&fileId=db3a3043156fd573011623a7dc3a1fd6&location=en.Products.Automotive_ICs.Motor_Drivers__Automotive_.Integrated_Smart_Power_Motor_Drivers.DATASHEET.TLE4209A_DS_11.pdf; ComponentLink3Description: Package Specification; ComponentLink3URL: http://www.infineon.com/dgdl/sae800_green_050217.pdf?folderId=db3a304412b407950112b437ac2b687a&fileId=db3a304412b407950112b437acae687b
footprint INF-PG-DIP-8-4 (DIP, 8-Leads, Body 9.52x6.35mm, Pitch 2.54mm)
pins: 1 FB (in) "Feedback Input", 2 HYST (io) "Hysteresis I/O", 3 OUT1 (power) "Power Output 1", 4 VS (power) "Power Supply Voltage", 5 OUT2 (power) "Power Output 2", 6 GND (power) "Ground", 7 RANGE (in) "Range Input", 8 REF (in) "Reference Input"

## TLE4209G
designator U?
0.8 A DC Motor Driver for Servo Driver Applications, -40 to 150 degC, PG-DSO-14-22, Reel, Green; Manufacturer: Infineon; PartNumber: TLE4209G; Green: TRUE; Inhibit: FALSE; IPeak: 2 x 1 A; Iq: 2 x 0.8 A; Iq (typ): 10 uA; Protect: short circuit e.a.; DatasheetVersion: Rev. 1.3; PackageVersion: Aug-07; PackageReference: PG-DSO-14-22; PackageDescription: 14-Pin Plastic (Green) Dual Small Outline Package, 8.65 x 3.9 mm Body, 1.27 mm Pitch; Supplier 1: Mouser; Supplier Part Number 1: 726-TLE4209G; Supplier 2: Digi-Key; Supplier Part Number 2: TLE4209G-ND; Group: Servo Driver; Halogen-free: TRUE; Packing: Reel; Technology: Bipolar; Mounting Technology: Surface Mount; ComponentLink1Description: Manufacturer URL; ComponentLink1URL: http://www.infineon.com/; ComponentLink2Description: Datasheet; ComponentLink2URL: http://www.infineon.com/dgdl/TLE4209G_DS_V13_neu.pdf?folderId=db3a3043156fd5730116144c5d101c30&fileId=db3a30431a5c32f2011a92010ba05a54&location=en.Products.Automotive_ICs.Motor_Drivers__Automotive_.Integrated_Smart_Power_Motor_Drivers.DATASHEET.TLE4209G_DS_V13_neu.pdf; ComponentLink3Description: Package Specification; ComponentLink3URL: http://www.infineon.com/dgdl/DS_TLE4206G_2007-08-10_Green_V11.pdf?folderId=db3a3043156fd5730116144c5d101c30&fileId=db3a3043163797a6011685bdd91c1672&sId=db3a30433d68e984013d7e2ab9f06173
footprint INF-PG-DSO-14-22_N (SOP, 14-Leads, Body 8.65x3.9mm, Pitch 1.27mm, IPC Medium Density)
footprint INF-PG-DSO-14-22_L (SOP, 14-Leads, Body 8.65x3.9mm, Pitch 1.27mm, IPC High Density)
footprint INF-PG-DSO-14-22_M (SOP, 14-Leads, Body 8.65x3.9mm, Pitch 1.27mm, IPC Low Density)
pins: 1 FB (in) "Feedback Input", 2 HYST (io) "Hysteresis I/O", 3 GND (power) "Ground", 4 GND (power) "Ground", 5 GND (power) "Ground", 6 OUT1 (power) "Power Output 1", 7 NC "Not connected", 8 VS (power) "Power Supply Voltage", 9 OUT2 (power) "Power Output 2", 10 GND (power) "Ground", 11 GND (power) "Ground", 12 GND (power) "Ground", 13 RANGE (in) "Range Input", 14 REF (in) "Reference Input"

## TLE4726G
designator U?
2-Phase Stepper Motor Driver, -40 to 150 degC, PG-DSO-24-13, Reel, Green; Manufacturer: Infineon; PartNumber: TLE4726G; Green: TRUE; IPeak: 2 x 1 A; Iq: 2 x 0.8 A; Iq (typ): 20 uA; Protect: Overtemp. e.a.; DatasheetVersion: Rev. 1.1; PackageVersion: Jun-08; PackageReference: PG-DSO-24-13; PackageDescription: 24-Pin Plastic (Green) Dual Small Outline Package, 15.4 x 7.5 mm Body, 1.27 mm Pitch; Supplier 1: Mouser; Supplier Part Number 1: 726-TLE4726G; Supplier 2: Digi-Key; Supplier Part Number 2: TLE4726G-ND; Group: Stepper Motor Driver; Halogen-free: TRUE; Inhibit: TRUE; Packing: Reel; Technology: Bipolar; Mounting Technology: Surface Mount; ComponentLink1Description: Manufacturer URL; ComponentLink1URL: http://www.infineon.com/; ComponentLink2Description: Datasheet; ComponentLink2URL: http://www.infineon.com/dgdl/TLE%25204726G_Green%2520DS_1+11.pdf?folderId=db3a3043156fd5730116144c5d101c30&fileId=db3a30431f848401011fc7e136367a9d&sId=db3a30433d68e984013d7e2687ef6145; ComponentLink3Description: Package Specification; ComponentLink3URL: http://www.infineon.com/dgdl/TLE%25204726G_Green%2520DS_1+11.pdf?folderId=db3a3043156fd5730116144c5d101c30&fileId=db3a30431f848401011fc7e136367a9d&sId=db3a30433d68e984013d7e2687ef6145
footprint INF-PG-DSO-24-13_N (SOP, 24-Leads, Body 15.4x7.5mm, Pitch 1.27mm, IPC Medium Density)
footprint INF-PG-DSO-24-13_L (SOP, 24-Leads, Body 15.4x7.5mm, Pitch 1.27mm, IPC High Density)
footprint INF-PG-DSO-24-13_M (SOP, 24-Leads, Body 15.4x7.5mm, Pitch 1.27mm, IPC Low Density)
pins: 1 I10 (in) "Digital control inputs IX0,IX1 for the magnitude of the current of the particular phase.", 2 I11 (in) "Digital control inputs IX0,IX1 for the magnitude of the current of the particular phase.", 3 PHASE 1 (in) "Input Phase 1; controls the current through phase winding 1. On H-potential the phase current flows from Q11 to Q12, on L-potential in the reverse direction.", 4 OSC "Oscillator; works at approx. 25 kHz if this pin is wired to ground across 2.2 nF.", 5 GND (power) "Ground; all pins are connected internally.", 6 GND (power) "Ground; all pins are connected internally.", 7 GND (power) "Ground; all pins are connected internally.", 8 GND (power) "Ground; all pins are connected internally.", 9 Q11 (out) "Push-pull outputs Q11, Q12 for phase 1 with integrated free-wheeling diodes.", 10 R1 (in) "Resistor R1  for sensing the current in phase 1.", 11 +VS (power) "Supply voltage; block to ground, as close as possible to the IC, with a stable electrolytic capacitor of at least 10 uF in parallel with a ceramic capacitor of 220 nF.", 12 Q12 (out) "Push-pull outputs Q11, Q12 for phase 1 with integrated free-wheeling diodes.", 13 Q22 (out) "Push-pull outputs Q22, Q21 for phase 2 with integrated free-wheeling diodes.", 14 +VL (power) "Logic supply voltage; either supply with 5 V or connect to +V S across a series resistor. A Z-diode of approx. 7 V is integrated. In both cases block to ground directly on the IC with a stable electrolytic capacitor of 10 uF (See Datasheet)", 15 R2 (in) "Resistor R2  for sensing the current in phase 2.", 16 Q21 (out) "Push-pull outputs Q22, Q21 for phase 2 with integrated free-wheeling diodes.", 17 GND (power) "Ground; all pins are connected internally.", 18 GND (power) "Ground; all pins are connected internally.", 19 GND (power) "Ground; all pins are connected internally.", 20 GND (power) "Ground; all pins are connected internally.", 21 INHIBIT (in) "Inhibit input; the IC can be put on standby by low potential on this pin. This reduces the current consumption substantially.", 22 PHASE 2 (in) "Input phase 2; controls the current flow through phase winding 2. On H-potential the phase current flows from Q21 to Q22, on L potential in the reverse direction.", 23 I21 (in) "Digital control inputs IX0,IX1 for the magnitude of the current of the particular phase.", 24 I20 (in) "Digital control inputs IX0,IX1 for the magnitude of the current of the particular phase."